# EAGLE library part MCP2515 (library IntegratedLib)
Controlador CAN com interface SPI (SOIC-18)
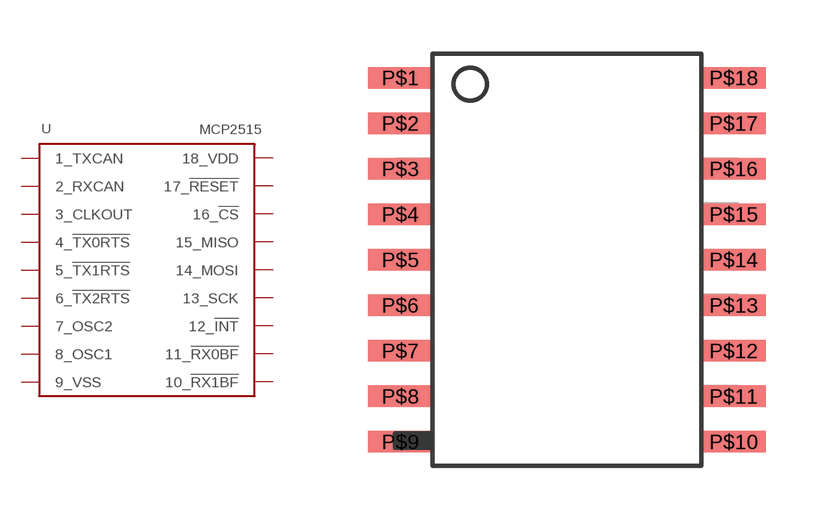
[diagram p24: symbol with the pads of SOIC-18; footprint SOIC-18]

Designator prefix U

## MCP2515 (FABRICANTE: MICROCHIP; PARTNUMBER: MCP2515I/SO; TIPO: CIRCUITO INTEGRADO)  [SOIC-18]
P$1  1_TXCAN
P$2  2_RXCAN
P$3  3_CLKOUT
P$4  4_!TX0RTS
P$5  5_!TX1RTS
P$6  6_!TX2RTS
P$7  7_OSC2
P$8  8_OSC1
P$9  9_VSS
P$10  10_!RX1BF
P$11  11_!RX0BF
P$12  12_!INT
P$13  13_SCK
P$14  14_MOSI
P$15  15_MISO
P$16  16_!CS
P$17  17_!RESET
P$18  18_VDD

## Footprint SOIC-18 (pad centres in mm)
smd 1.8 x 0.6: P$1 -4.65,5.08; P$2 -4.65,3.81; P$3 -4.65,2.54; P$4 -4.65,1.27; P$5 -4.65,0; P$6 -4.65,-1.27; P$7 -4.65,-2.54; P$8 -4.65,-3.81; P$9 -4.65,-5.08; P$10 4.65,-5.08; P$11 4.65,-3.81; P$12 4.65,-2.54; P$13 4.65,-1.27; P$14 4.65,0; P$15 4.65,1.27; P$16 4.65,2.54; P$17 4.65,3.81; P$18 4.65,5.08